# Altium integrated library LM7805CT_NOPB (1).IntLib: 1 symbol
Pins are listed as number, name and electrical type; pins without a type are passive.

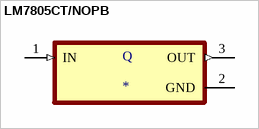
[diagram p0: symbol LM7805CT/NOPB]

## LM7805CT/NOPB
designator Q
1.5-A, 30-V, linear voltage regulator 3-TO-220 0 to 125; MF: Texas Instruments; MP: LM7805CT/NOPB; Package: TO-220-3 Texas Instruments; Texas_Instruments-Purchase-URL: https://snapeda.com/shop?store=Texas+Instruments&id=6627; Value: *; Price: None; Availability: Unavailable; SnapEDA_Link: https://www.snapeda.com/parts/LM7805CT/NOPB/Texas%20Instruments/view-part/6627/?ref=snap
footprint TO254P1054X470X1955-3
pins: 1 IN (in), 2 GND (power), 3 OUT (out)